# Altium footprint library CAP1206.PcbLib: 6 footprints
Each footprint in its own frame and in the unit in brackets; x right, y up, seen from the top. Pads: shape width x height; smd on the part's side, far side on the other; paste and mask are expansions set on the pad; w line width, h text height; cw(c..) or ccw(c..) is an arc to the next point about the centre after c.
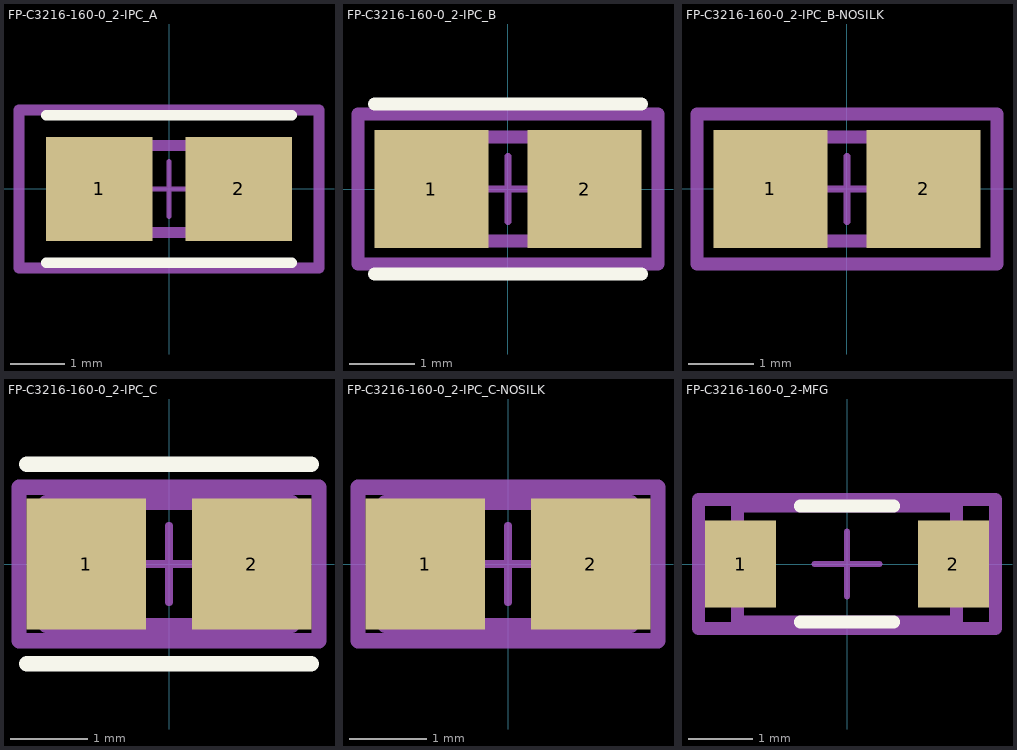
[diagram p0: the footprints below, top view; thin cyan lines are the x and y axes]

## FP-C3216-160-0_2-IPC_A [mm]
pads (2):
  rect 1.954x1.906 smd: 1(-1.276,0) 2(1.276,0)
Top Overlay:
  lines w0.2: -2.253,-1.353 2.253,-1.353 ; -2.253,1.353 2.253,1.353
Top Assembly:
  lines w0.2: -2.753,-1.453 2.753,-1.453 2.753,1.453 -2.753,1.453 -2.753,-1.453
  text ".Designator" at 0,0.188 h1
Top 3D Body:
  lines w0.2: -1.6,-0.8 1.6,-0.8 1.6,0.8 -1.6,0.8 -1.6,-0.8
Top Courtyard:
  lines w0.2: -2.753,-1.453 2.753,-1.453 2.753,1.453 -2.753,1.453 -2.753,-1.453
Top Component Center:
  lines w0.1: -0.5,0 0.5,0 ; 0,-0.5 0,0.5
3D body "Cap_TDK_C3216X7R1C106M160AC_eec.STEP": height 0.25, standoff 0, extent -2.753,-1.453 2.753,1.453

## FP-C3216-160-0_2-IPC_B [mm]
pads (2):
  rect 1.754x1.806 smd: 1(-1.176,0) 2(1.176,0)
Top Overlay:
  lines w0.2: -2.053,-1.303 2.053,-1.303 ; -2.053,1.303 2.053,1.303
Top Assembly:
  lines w0.2: -2.303,-1.153 -2.303,1.153 2.303,1.153 2.303,-1.153 -2.303,-1.153
  text ".Designator" at 0,0.188 h1
Top 3D Body:
  lines w0.2: -1.6,-0.8 -1.6,0.8 1.6,0.8 1.6,-0.8 -1.6,-0.8
Top Courtyard:
  lines w0.2: -2.303,-1.153 -2.303,1.153 2.303,1.153 2.303,-1.153 -2.303,-1.153
Top Component Center:
  lines w0.1: -0.5,0 0.5,0 ; 0,-0.5 0,0.5
3D body "Cap_TDK_C3216X7R1C106M160AC_eec.STEP": height 0.25, standoff 0, extent -2.303,-1.153 2.303,1.153

## FP-C3216-160-0_2-IPC_B-NOSILK [mm]
pads (2):
  rect 1.754x1.806 smd: 1(-1.176,0) 2(1.176,0)
Top Assembly:
  lines w0.2: -2.303,-1.153 -2.303,1.153 2.303,1.153 2.303,-1.153 -2.303,-1.153
  text ".Designator" at 0,0.188 h1
Top 3D Body:
  lines w0.2: -1.6,-0.8 -1.6,0.8 1.6,0.8 1.6,-0.8 -1.6,-0.8
Top Courtyard:
  lines w0.2: -2.303,-1.153 -2.303,1.153 2.303,1.153 2.303,-1.153 -2.303,-1.153
Top Component Center:
  lines w0.1: -0.5,0 0.5,0 ; 0,-0.5 0,0.5
3D body "Cap_TDK_C3216X7R1C106M160AC_eec.STEP": height 0.25, standoff 0, extent -2.303,-1.153 2.303,1.153

## FP-C3216-160-0_2-IPC_C [mm]
pads (2):
  rect 1.554x1.706 smd: 1(-1.076,0) 2(1.076,0)
Top Overlay:
  lines w0.2: -1.853,-1.3 1.853,-1.3 ; -1.853,1.3 1.853,1.3
Top Assembly:
  lines w0.2: -1.953,-1 1.953,-1 1.953,1 -1.953,1 -1.953,-1
  text ".Designator" at 0,0.188 h1
Top 3D Body:
  lines w0.2: -1.6,-0.8 1.6,-0.8 1.6,0.8 -1.6,0.8 -1.6,-0.8
Top Courtyard:
  lines w0.2: -1.953,-1 1.953,-1 1.953,1 -1.953,1 -1.953,-1
Top Component Center:
  lines w0.1: -0.5,0 0.5,0 ; 0,-0.5 0,0.5
3D body "Cap_TDK_C3216X7R1C106M160AC_eec.STEP": height 0.25, standoff 0, extent -1.953,-1 1.953,1

## FP-C3216-160-0_2-IPC_C-NOSILK [mm]
pads (2):
  rect 1.554x1.706 smd: 1(-1.076,0) 2(1.076,0)
Top Assembly:
  lines w0.2: -1.953,-1 1.953,-1 1.953,1 -1.953,1 -1.953,-1
  text ".Designator" at 0,0.188 h1
Top 3D Body:
  lines w0.2: -1.6,-0.8 1.6,-0.8 1.6,0.8 -1.6,0.8 -1.6,-0.8
Top Courtyard:
  lines w0.2: -1.953,-1 1.953,-1 1.953,1 -1.953,1 -1.953,-1
Top Component Center:
  lines w0.1: -0.5,0 0.5,0 ; 0,-0.5 0,0.5
3D body "Cap_TDK_C3216X7R1C106M160AC_eec.STEP": height 0.25, standoff 0, extent -1.953,-1 1.953,1

## FP-C3216-160-0_2-MFG [mm]
pads (2):
  rect 1.1x1.35 smd paste+0 mask+0: 1(-1.65,0)
  rect 1.1x1.35 smd: 2(1.65,0)
Top Overlay:
  lines w0.2: -0.725,-0.9 0.725,-0.9 ; -0.725,0.9 0.725,0.9
Top Assembly:
  lines w0.2: -2.3,-1 2.3,-1 2.3,1 -2.3,1 -2.3,-1
  text ".Designator" at 0,0.188 h1
Top 3D Body:
  lines w0.2: -1.7,-0.9 1.7,-0.9 1.7,0.9 -1.7,0.9 -1.7,-0.9
Top Courtyard:
  lines w0.2: -2.3,-1 2.3,-1 2.3,1 -2.3,1 -2.3,-1
Top Component Center:
  lines w0.1: -0.5,0 0.5,0 ; 0,-0.5 0,0.5
3D body "Cap_TDK_C3216X7R1C106M160AC_eec.STEP": height 0.25, standoff 0, extent -2.3,-1 2.3,1